# Altium schematic symbol library ACS712.SchLib: 1 symbol
Pins are listed as number, name and electrical type; pins without a type are passive.

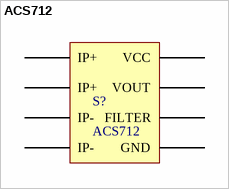
[diagram p0: symbol ACS712]

## ACS712
designator S?
footprint SOIC127P600X175-8N (SOIC, 8-Leads, Body 5,0x4,0mm (max), Pitch 1,27mm, IPC Medium Density)
pins: 1 IP+, 1 IP+, 3 IP-, 3 IP-, 5 GND, 6 FILTER, 7 VOUT, 8 VCC